# Altium schematic symbol library Wifi-Vista_6AXIS.SchLib: 1 symbol
Pins are listed as number, name and electrical type; pins without a type are passive.

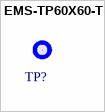
[diagram p0: symbol EMS-TP60X60-T]

## EMS-TP60X60-T
designator TP?, comment TEST POINT  (value not drawn)
Internal Part Number: EMS-TP60X60-T; 1st Auxiliary Field: Black; Component Height (mm): *; Manufacturer: *; Part Type: TEST POINT; Manufacturer Part Number: *
footprint TP_60_NP (Footprint not found)
pins: 1